# Altium integrated library Seti-Controler-3C.IntLib: 28 symbols
Pins are listed as number, name and electrical type; pins without a type are passive.

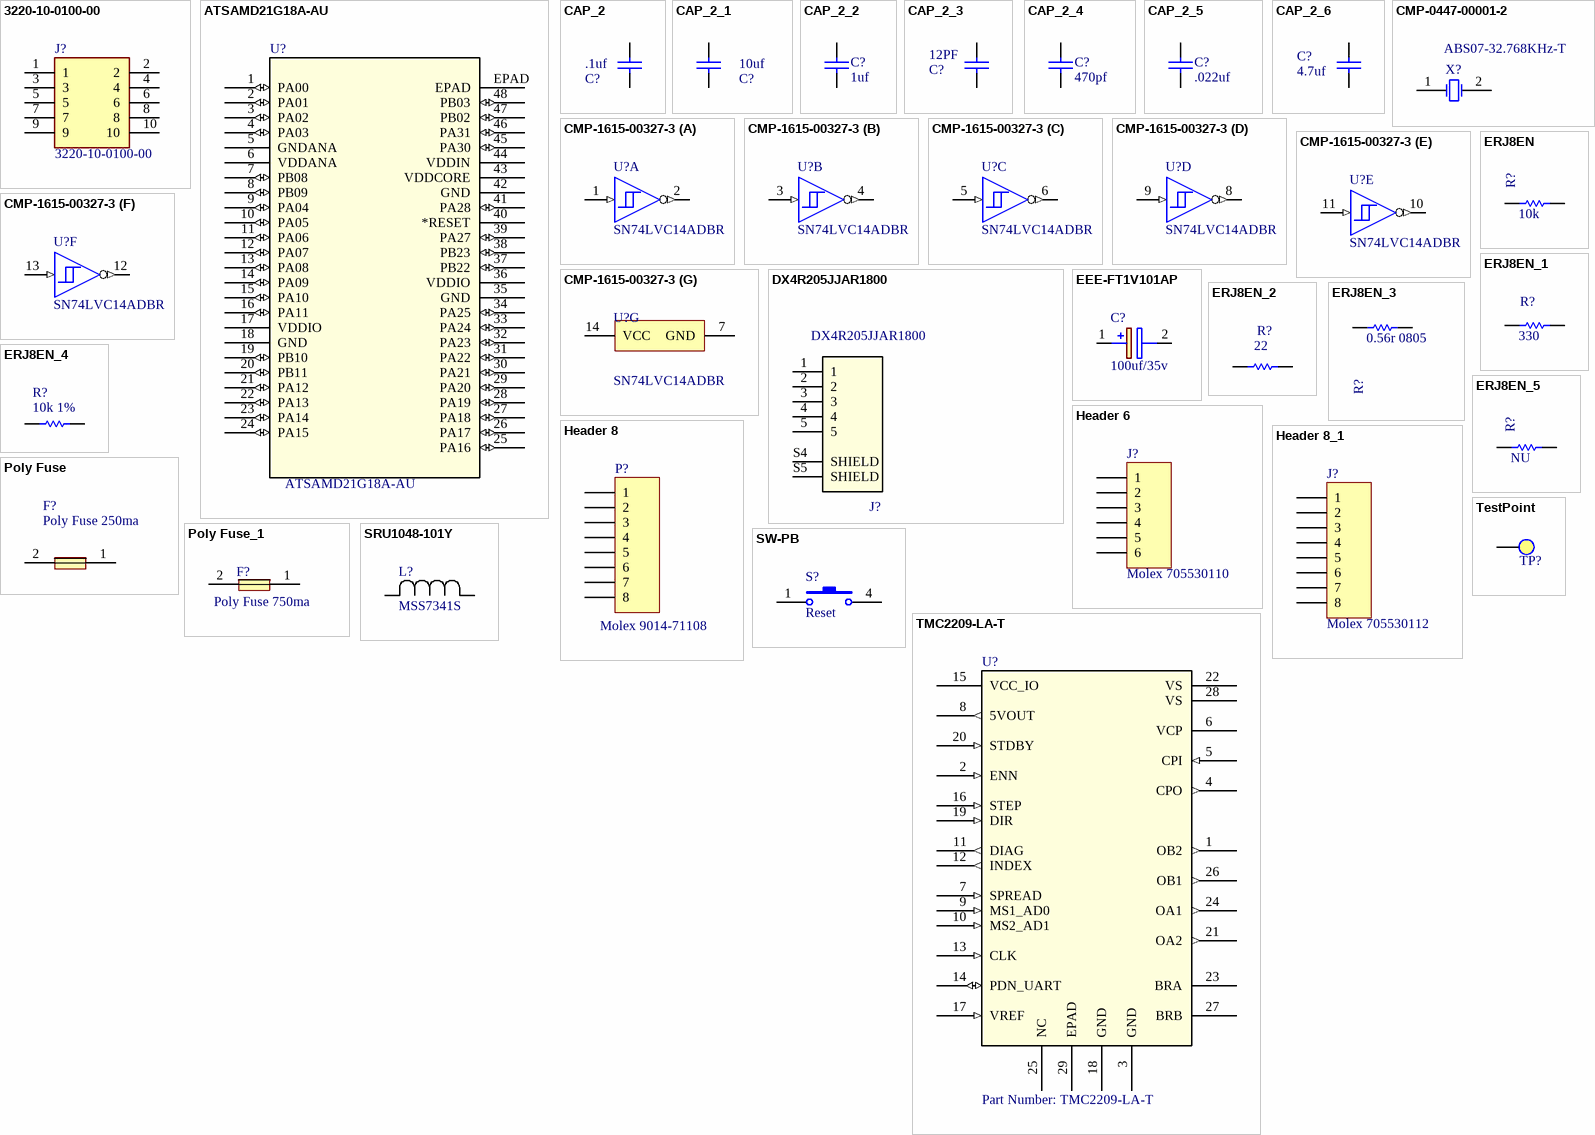
[diagram p0: symbols 3220-10-0100-00 to TMC2209-LA-T]

## 3220-10-0100-00
designator J?
Connector; Manufacturer_Name: CNC Tech; Datasheet Link: http://www.cnctech.us/pdfs/3220-XX-0100-00.pdf; Height: 5.65mm; Manufacturer_Part_Number: 3220-10-0100-00
footprint SHDR10W41P127_2X5_1265X510X565P
pins: 1, 2, 3, 4, 5, 6, 7, 8, 9, 10

## ATSAMD21G18A-AU
designator U?
No Description Available; Vendor: Microchip; Built_By: EMA_Molly; Manufacturer_Part_Number: ATSAMD21G18A-AU; Copyright: Copyright (C) 2018 Accelerated Designs. All rights reserved; RefDes: RefDes; Type: DEV; Value: Value
footprint TQFP48_7x7MC
pins: 1 PA00 (io), 2 PA01 (io), 3 PA02 (io), 4 PA03 (io), 5 GNDANA, 6 VDDANA (power), 7 PB08 (io), 8 PB09 (io), 9 PA04 (io), 10 PA05 (io), 11 PA06 (io), 12 PA07 (io), 13 PA08 (io), 14 PA09 (io), 15 PA10 (io), 16 PA11 (io), 17 VDDIO (power), 18 GND, 19 PB10 (io), 20 PB11 (io), 21 PA12 (io), 22 PA13 (io), 23 PA14 (io), 24 PA15 (io), 25 PA16 (io), 26 PA17 (io), 27 PA18 (io), 28 PA19 (io), 29 PA20 (io), 30 PA21 (io), 31 PA22 (io), 32 PA23 (io), 33 PA24 (io), 34 PA25 (io), 35 GND, 36 VDDIO (power), 37 PB22 (io), 38 PB23 (io), 39 PA27 (io), 40 *RESET, 41 PA28 (io), 42 GND, 43 VDDCORE (power), 44 VDDIN (power), 45 PA30 (io), 46 PA31 (io), 47 PB02 (io), 48 PB03 (io), EPAD

## CAP_2
designator C?, comment .1uf
Capacitor; Fitted: True
footprint 6-0805
pins: 1, 2

## CAP_2_1
designator C?, comment 10uf
Capacitor; Fitted: True
footprint 6-0805
pins: 1, 2

## CAP_2_2
designator C?, comment 1uf
Capacitor; Fitted: True
footprint 6-0805
pins: 1, 2

## CAP_2_3
designator C?, comment 12PF
Capacitor; Fitted: True
footprint 6-0805
pins: 1, 2

## CAP_2_4
designator C?, comment 470pf
Capacitor; Fitted: True
footprint 6-0805
pins: 1, 2

## CAP_2_5
designator C?, comment .022uf
Capacitor; Fitted: True
footprint 6-0805
pins: 1, 2

## CAP_2_6
designator C?, comment 4.7uf
Capacitor; Fitted: True
footprint 6-0805
pins: 1, 2

## CMP-0447-00001-2
designator X?, comment ABS07-32.768KHz-T
Crystal, 32.768 kHz, 12.5 pF, -40 to 85 degC, SMD Low Profile 3.2 x 1.5 x 0.9 mm, Tape and Reel; Manufacturer: Abracon; Q Value (Type): 30000; Operation Mode: Flexural Mode (Tuning Fork); Shunt Capacitance (C0): 0.9 to 1.2 pF; Load Capacitance (CL): 12.5 pF; Frequency Tolerance @+25degC: +/- 20 ppm; Drive Level (Type): 0.1 uW; Equivalent Series Resistance (R1): 70 Kohm; Insulation Resistance (Min): 500 Mohm; ComponentLink3URL: http://www.abracon.com/Resonators/ABS07.pdf; PackageDescription: 2-Pin Hand Drawn, Body 3.2x1.5mm, Pitch 2.5mm; Operating Temperature: -40 to 85 degC; ComponentLink2URL: http://www.abracon.com/Resonators/ABS07.pdf; PackageReference: ABS07-2; ComponentLink3Description: Package Specification; ComponentLink1Description: Manufacturer URL; DatasheetVersion: 04.03.13; Mounting Technology: Surface Mount; ComponentLink2Description: Datasheet; ComponentLink1URL: http://www.abracon.com/; PartNumber: ABS07-32.768KHz-T; Packing: Tape and Reel; Frequency: 32.768 kHz; Manufacturer Part Number: ABS07-32.768KHZ-T
footprint ABRA-ABS07-2_V (Hand Drawn, 2-Leads, Body 3.2x1.5mm, Pitch 2.5mm)
pins: 1 X1, 2 X2

## CMP-1615-00327-3
designator U?, comment SN74LVC14ADBR
Hex Schmitt-Trigger Inverter, DB0014A, LARGE T&R; Manufacturer: Texas Instruments; tpd @ Nom Voltage(Max)(ns): 11,7.8,7.5,6.4; Output Type: CMOS; Voltage(Nom)(V): 1.8,2.5,2.7,3.3; F @ Nom Voltage(Max)(Mhz): 100; ICC @ Nom Voltage(Max)(mA): 0.01; Input Type: CMOS,TTL; VCC(Max)(V): 3.6; Schmitt Trigger: Yes; Technology Family: LVC; VCC(Min)(V): 2; Output Drive (IOL/IOH)(Max)(mA): -24/24; Bits(#): 6; Rating: Catalog; Code_JEDEC: MO-150; PackageReference: DB0014A; Generic Part Number: SN74LVC14A; Operating Temperature Range(C): -40 to 125; DatasheetVersion: SCAS285AA; Manufacturer Part Number: SN74LVC14ADBR
footprint DB0014A_M (SOP, 14-Leads, Body 5.6x6.5mm, Pitch 0.65mm, IPC Low Density)
footprint DB0014A_L (SOP, 14-Leads, Body 5.6x6.5mm, Pitch 0.65mm, IPC High Density)
footprint DB0014A_N (SOP, 14-Leads, Body 5.6x6.5mm, Pitch 0.65mm, IPC Medium Density)
part A pins: 1 1A (in) "Input 1A", 2 ~{1Y} (out) "Output 1Y"
part B pins: 3 2A (in) "Input 2A", 4 ~{2Y} (out) "Output 2Y"
part C pins: 5 3A (in) "Input 3A", 6 ~{3Y} (out) "Output 3Y"
part D pins: 8 ~{4Y} (out) "Output 4Y", 9 4A (in) "Input 4A"
part E pins: 10 ~{5Y} (out) "Output 5Y", 11 5A (in) "Input 5A"
part F pins: 12 ~{6Y} (out) "Output 6Y", 13 6A (in) "Input 6A"
part G pins: 7 GND (power) "Ground Pin", 14 VCC (power) "Power Pin"

## DX4R205JJAR1800
designator J?
DX4 series, receptacle, on-board, right-angle standard mount, surface mount; MF: JAE Electronics; SnapEDA_Link: https://www.snapeda.com/parts/DX4R205JJAR1800/JAE%20Electronics/view-part/?ref=snap; Digi-Key_Purchase_URL: https://www.digikey.com/product-detail/en/jae-electronics/DX4R205JJAR1800/670-2677-1-ND/3903237?utm_source=snapeda&utm_medium=aggregator&utm_campaign=symbol; Digi-Key_Part_Number: 670-2677-1-ND; Package: None; MP: DX4R205JJAR1800; Value: *
footprint *JAE_DX4R205JJAR1800_DX4R205JJAR1800(Primary)
pins: 1, 2, 3, 4, 5, S4 SHIELD, S5 SHIELD

## EEE-FT1V101AP
designator C?, comment 100uf/35v
Capacitor Polarised; Manufacturer_Name: Panasonic; Manufacturer_Part_Number: EEE-FT1V101AP; Allied_Number: 70258385; Datasheet Link: https://industrial.panasonic.com/cdbs/www-data/pdf/RDE0000/ABA0000C1240.pdf; Height: 6.1mm; Mouser Part Number: 667-EEE-FT1V101AP; Mouser Price/Stock: https://www.mouser.com/Search/Refine.aspx?Keyword=667-EEE-FT1V101AP; Allied Price/Stock: https://www.alliedelec.com/panasonic-eee-ft1v101ap/70258385/
footprint CAPAE660X610N
pins: 1 +, 2 -

## ERJ8EN
designator R?, comment 10k
Precision Thick Film Chip Resistor, 10 Ohm to 2.2M Ohm Range, 1% Tolerance, 1206 Size, 0.125 W; Published: 17-Dec-2003; LatestRevisionDate: 19-Mar-2004; LatestRevisionNote: Silkscreen size reduced.; PackageDocument: Mar-2003; PackageReference: 8-1206; Publisher: Altium Limited; Code_IPC: 3216 [1206]; ComponentLink1Description: Manufacturer Link; ComponentLink1URL: http://www.panasonic.com/industrial/components/resistive_products.htm; ComponentLink2Description: Datasheet; ComponentLink2URL: http://www.panasonic.com/industrial/components/pdf/AOA0000CE2.pdf
footprint 8-1206 (Chip Resistor; Body 3.1 x 1.6 mm (LxW typ))
simulation model RESISTOR (Resistor)
signal-integrity model Res
footprint 6-0805 (Chip Resistor; Body 2 x 1.2 mm (LxW typ))
pins: 1, 2

## ERJ8EN_1
designator R?, comment 330
Precision Thick Film Chip Resistor, 10 Ohm to 2.2M Ohm Range, 1% Tolerance, 1206 Size, 0.125 W; Published: 17-Dec-2003; LatestRevisionDate: 19-Mar-2004; LatestRevisionNote: Silkscreen size reduced.; PackageDocument: Mar-2003; PackageReference: 8-1206; Publisher: Altium Limited; Code_IPC: 3216 [1206]; ComponentLink1Description: Manufacturer Link; ComponentLink1URL: http://www.panasonic.com/industrial/components/resistive_products.htm; ComponentLink2Description: Datasheet; ComponentLink2URL: http://www.panasonic.com/industrial/components/pdf/AOA0000CE2.pdf
footprint 8-1206 (Chip Resistor; Body 3.1 x 1.6 mm (LxW typ))
simulation model RESISTOR (Resistor)
signal-integrity model Res
footprint 6-0805 (Chip Resistor; Body 2 x 1.2 mm (LxW typ))
pins: 1, 2

## ERJ8EN_2
designator R?, comment 22
Precision Thick Film Chip Resistor, 10 Ohm to 2.2M Ohm Range, 1% Tolerance, 1206 Size, 0.125 W; Published: 17-Dec-2003; LatestRevisionDate: 19-Mar-2004; LatestRevisionNote: Silkscreen size reduced.; PackageDocument: Mar-2003; PackageReference: 8-1206; Publisher: Altium Limited; Code_IPC: 3216 [1206]; ComponentLink1Description: Manufacturer Link; ComponentLink1URL: http://www.panasonic.com/industrial/components/resistive_products.htm; ComponentLink2Description: Datasheet; ComponentLink2URL: http://www.panasonic.com/industrial/components/pdf/AOA0000CE2.pdf
footprint 8-1206 (Chip Resistor; Body 3.1 x 1.6 mm (LxW typ))
simulation model RESISTOR (Resistor)
signal-integrity model Res
footprint 6-0805 (Chip Resistor; Body 2 x 1.2 mm (LxW typ))
pins: 1, 2

## ERJ8EN_3
designator R?, comment 0.56r 0805
Precision Thick Film Chip Resistor, 10 Ohm to 2.2M Ohm Range, 1% Tolerance, 1206 Size, 0.125 W; Published: 17-Dec-2003; LatestRevisionDate: 19-Mar-2004; LatestRevisionNote: Silkscreen size reduced.; PackageDocument: Mar-2003; PackageReference: 8-1206; Publisher: Altium Limited; Code_IPC: 3216 [1206]; ComponentLink1Description: Manufacturer Link; ComponentLink1URL: http://www.panasonic.com/industrial/components/resistive_products.htm; ComponentLink2Description: Datasheet; ComponentLink2URL: http://www.panasonic.com/industrial/components/pdf/AOA0000CE2.pdf
footprint 8-1206 (Chip Resistor; Body 3.1 x 1.6 mm (LxW typ))
simulation model RESISTOR (Resistor)
signal-integrity model Res
footprint 6-0805 (Chip Resistor; Body 2 x 1.2 mm (LxW typ))
footprint 1210 (Chip Capacitor; Body 3.2 x 2.5 mm (LxW typ))
pins: 1, 2

## ERJ8EN_4
designator R?, comment 10k 1%
Precision Thick Film Chip Resistor, 10 Ohm to 2.2M Ohm Range, 1% Tolerance, 1206 Size, 0.125 W; Published: 17-Dec-2003; LatestRevisionDate: 19-Mar-2004; LatestRevisionNote: Silkscreen size reduced.; PackageDocument: Mar-2003; PackageReference: 8-1206; Publisher: Altium Limited; Code_IPC: 3216 [1206]; ComponentLink1Description: Manufacturer Link; ComponentLink1URL: http://www.panasonic.com/industrial/components/resistive_products.htm; ComponentLink2Description: Datasheet; ComponentLink2URL: http://www.panasonic.com/industrial/components/pdf/AOA0000CE2.pdf
footprint 8-1206 (Chip Resistor; Body 3.1 x 1.6 mm (LxW typ))
simulation model RESISTOR (Resistor)
signal-integrity model Res
footprint 6-0805 (Chip Resistor; Body 2 x 1.2 mm (LxW typ))
pins: 1, 2

## ERJ8EN_5
designator R?, comment NU
Precision Thick Film Chip Resistor, 10 Ohm to 2.2M Ohm Range, 1% Tolerance, 1206 Size, 0.125 W; Published: 17-Dec-2003; LatestRevisionDate: 19-Mar-2004; LatestRevisionNote: Silkscreen size reduced.; PackageDocument: Mar-2003; PackageReference: 8-1206; Publisher: Altium Limited; Code_IPC: 3216 [1206]; ComponentLink1Description: Manufacturer Link; ComponentLink1URL: http://www.panasonic.com/industrial/components/resistive_products.htm; ComponentLink2Description: Datasheet; ComponentLink2URL: http://www.panasonic.com/industrial/components/pdf/AOA0000CE2.pdf
footprint 8-1206 (Chip Resistor; Body 3.1 x 1.6 mm (LxW typ))
simulation model RESISTOR (Resistor)
signal-integrity model Res
footprint 6-0805 (Chip Resistor; Body 2 x 1.2 mm (LxW typ))
pins: 1, 2

## Header 6
designator J?, comment Molex 705530110
Header, 6-Pin; LatestRevisionDate: 17-Jul-2002; LatestRevisionNote: Re-released for DXP Platform.; Publisher: Altium Limited
footprint HDR1X6 (Connector; Header; 6 Position)
signal-integrity model Connector
pins: 1, 2, 3, 4, 5, 6

## Header 8
designator P?, comment Molex 9014-71108
Header, 8-Pin; LatestRevisionDate: 17-Jul-2002; LatestRevisionNote: Re-released for DXP Platform.; Publisher: Altium Limited
footprint HDR1X8 (Connector; Header; 8 Position)
signal-integrity model Connector
pins: 1, 2, 3, 4, 5, 6, 7, 8

## Header 8_1
designator J?, comment Molex 705530112
Header, 8-Pin; LatestRevisionDate: 17-Jul-2002; LatestRevisionNote: Re-released for DXP Platform.; Publisher: Altium Limited
footprint HDR1X8 (Connector; Header; 8 Position)
signal-integrity model Connector
pins: 1, 2, 3, 4, 5, 6, 7, 8

## Poly Fuse
designator F?, comment Poly Fuse 250ma
Poly Fuse
footprint PTC 2016L
footprint 8-1206 (Chip Resistor; Body 3.1 x 1.6 mm (LxW typ))
pins: 1, 2

## Poly Fuse_1
designator F?, comment Poly Fuse 750ma
Poly Fuse
footprint PTC 2016L
pins: 1, 2

## SRU1048-101Y
designator L?, comment MSS7341S
No Description Available; Manufacturer_Part_Number: SRU1048-101Y; Vendor: Bourns Electronics; Built_By: EMA_UL_Team; Copyright: Copyright (C) 2018 Accelerated Designs. All rights reserved; Value: Value
footprint sru1048 (10mm X 10mm Inductor)
footprint MSS7341502NLD
pins: 1, 2

## SW-PB
designator S?, comment Reset
Switch; Published: 24-Mar-1999; LatestRevisionDate: 17-Jul-2002; LatestRevisionNote: Re-released for DXP Platform.; PackageReference: SPST-2; Publisher: Altium Limited
footprint Alps 5X3 PushButton
footprint KMR_2
pins: 1, 4

## TestPoint
designator TP?  (value not drawn)
footprint Test Point-Thru-Hole
footprint Test Point-Thru-Hole
pins: 1 TP? "Test Point"

## TMC2209-LA-T
designator U?, comment Part Number: TMC2209-LA-T
No Description Available; Vendor: Trinamic; Manufacturer_Part_Number: TMC2209-LA-T; Copyright: Copyright (C) 2018 Accelerated Designs. All rights reserved; RefDes: RefDes; Type: DEV; Value: Value
footprint QFN50P500X500X90-29N
pins: 1 OB2 (out), 2 ENN (in), 3 GND (power), 4 CPO (out), 5 CPI (in), 6 VCP (power), 7 SPREAD (in), 8 5VOUT (out), 9 MS1_AD0 (in), 10 MS2_AD1 (in), 11 DIAG (out), 12 INDEX (out), 13 CLK (in), 14 PDN_UART (io), 15 VCC_IO (power), 16 STEP (in), 17 VREF (in), 18 GND (power), 19 DIR (in), 20 STDBY (in), 21 OA2 (out), 22 VS (power), 23 BRA, 24 OA1 (out), 25 NC, 26 OB1 (out), 27 BRB, 28 VS (power), 29 EPAD